# EAGLE library part ESP32 (library Trainii)
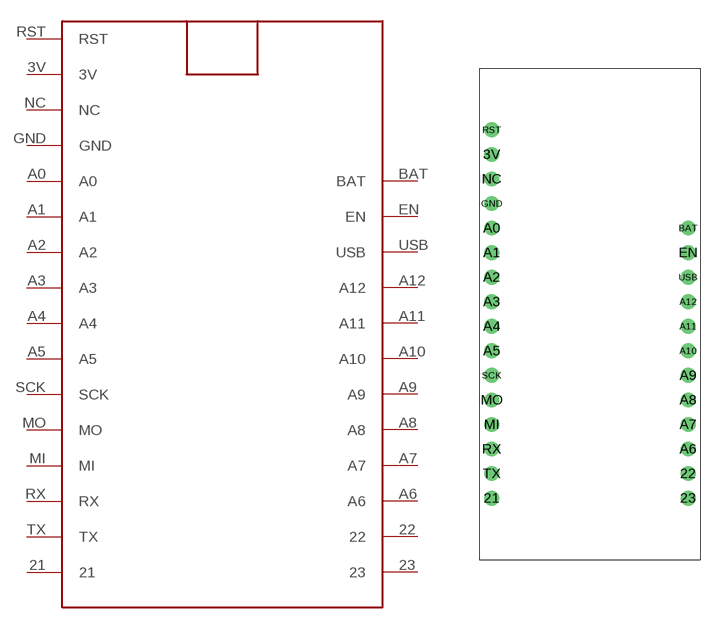
[diagram p0: symbol with the pads of ESP32; footprint ESP32]

Designator prefix -

## ESP32  [ESP32]
3V  3V
21  21
22  22
23  23
A0  A0
A1  A1
A2  A2
A3  A3
A4  A4
A5  A5
A6  A6
A7  A7
A8  A8
A9  A9
A10  A10
A11  A11
A12  A12
BAT  BAT
EN  EN
GND  GND
MI  MI
MO  MO
NC  NC
RST  RST
RX  RX
SCK  SCK
TX  TX
USB  USB

## Footprint ESP32 (pad centres in mm)
drill 1.02: 3V -10.16,16.51; 21 -10.16,-19.05; 22 10.16,-16.51; 23 10.16,-19.05; A0 -10.16,8.89; A1 -10.16,6.35; A2 -10.16,3.81; A3 -10.16,1.27; A4 -10.16,-1.27; A5 -10.16,-3.81; A6 10.16,-13.97; A7 10.16,-11.43; A8 10.16,-8.89; A9 10.16,-6.35; A10 10.16,-3.81; A11 10.16,-1.27; A12 10.16,1.27; BAT 10.16,8.89; EN 10.16,6.35; GND -10.16,11.43; MI -10.16,-11.43; MO -10.16,-8.89; NC -10.16,13.97; RST -10.16,19.05; RX -10.16,-13.97; SCK -10.16,-6.35; TX -10.16,-16.51; USB 10.16,3.81